# EAGLE library part NC3?-SW (library con-neutrik_ag)
Neutrik Audio Connector XLR SERIES Stereo 1/4" jack Source: www.neutrik.com/
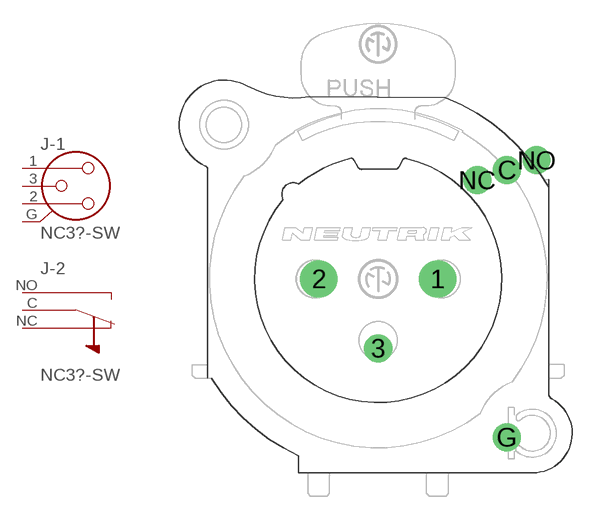
[diagram p2: symbol with the pads of NC3FBV2-SW; footprint NC3FBV2-SW]

Designator prefix J; gates -1=NC3-G -2=SW

## NC3FBV2-SW  [NC3FBV2-SW]
1  -1:1  pas
2  -1:2  pas
3  -1:3  pas
C  -2:N  pas
G  -1:G  pas
NC  -2:NC  pas
NO  -2:NO  pas

## Footprint NC3FBV2-SW (pad centres in mm)
Neutrik Audio Connector Source: www.neutrik.com/... 210_269241.pdf
drill 1.6: 1 3.81,0; 2 -3.81,0
drill 1.2: 3 0,-4.45; G 8.25,-10.16
drill 1.194: C 8.255,6.985; NC 6.35,6.35; NO 10.16,7.62